# Altium integrated library L08R5000Q1.IntLib: 1 symbol
Pins are listed as number, name and electrical type; pins without a type are passive.

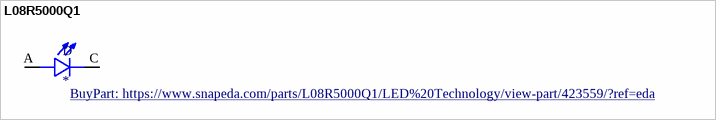
[diagram p0: symbol L08R5000Q1]

## L08R5000Q1
designator D
LED, 5MM, ORANGE; LED / Lamp Size: 5mm / T-1 3/4; LED Colour: Orange; Typ Luminous Intensity: 4.3mcd; Viewing Angle: ...; MF: LED Technology; MP: L08R5000Q1; Price: None; Availability: Unavailable; Package: None; SnapEDA_Link: https://www.snapeda.com/parts/L08R5000Q1/LED%20Technology/view-part/423559/?ref=snap; Value: *; BuyPart: https://www.snapeda.com/parts/L08R5000Q1/LED%20Technology/view-part/423559/?ref=eda
footprint LEDRD254W57D500H1070
pins: A, C